# Altium schematic symbol library Y001_Artix7_USB3.0_D0.SchLib: 22 symbols
Pins are listed as number, name and electrical type; pins without a type are passive.

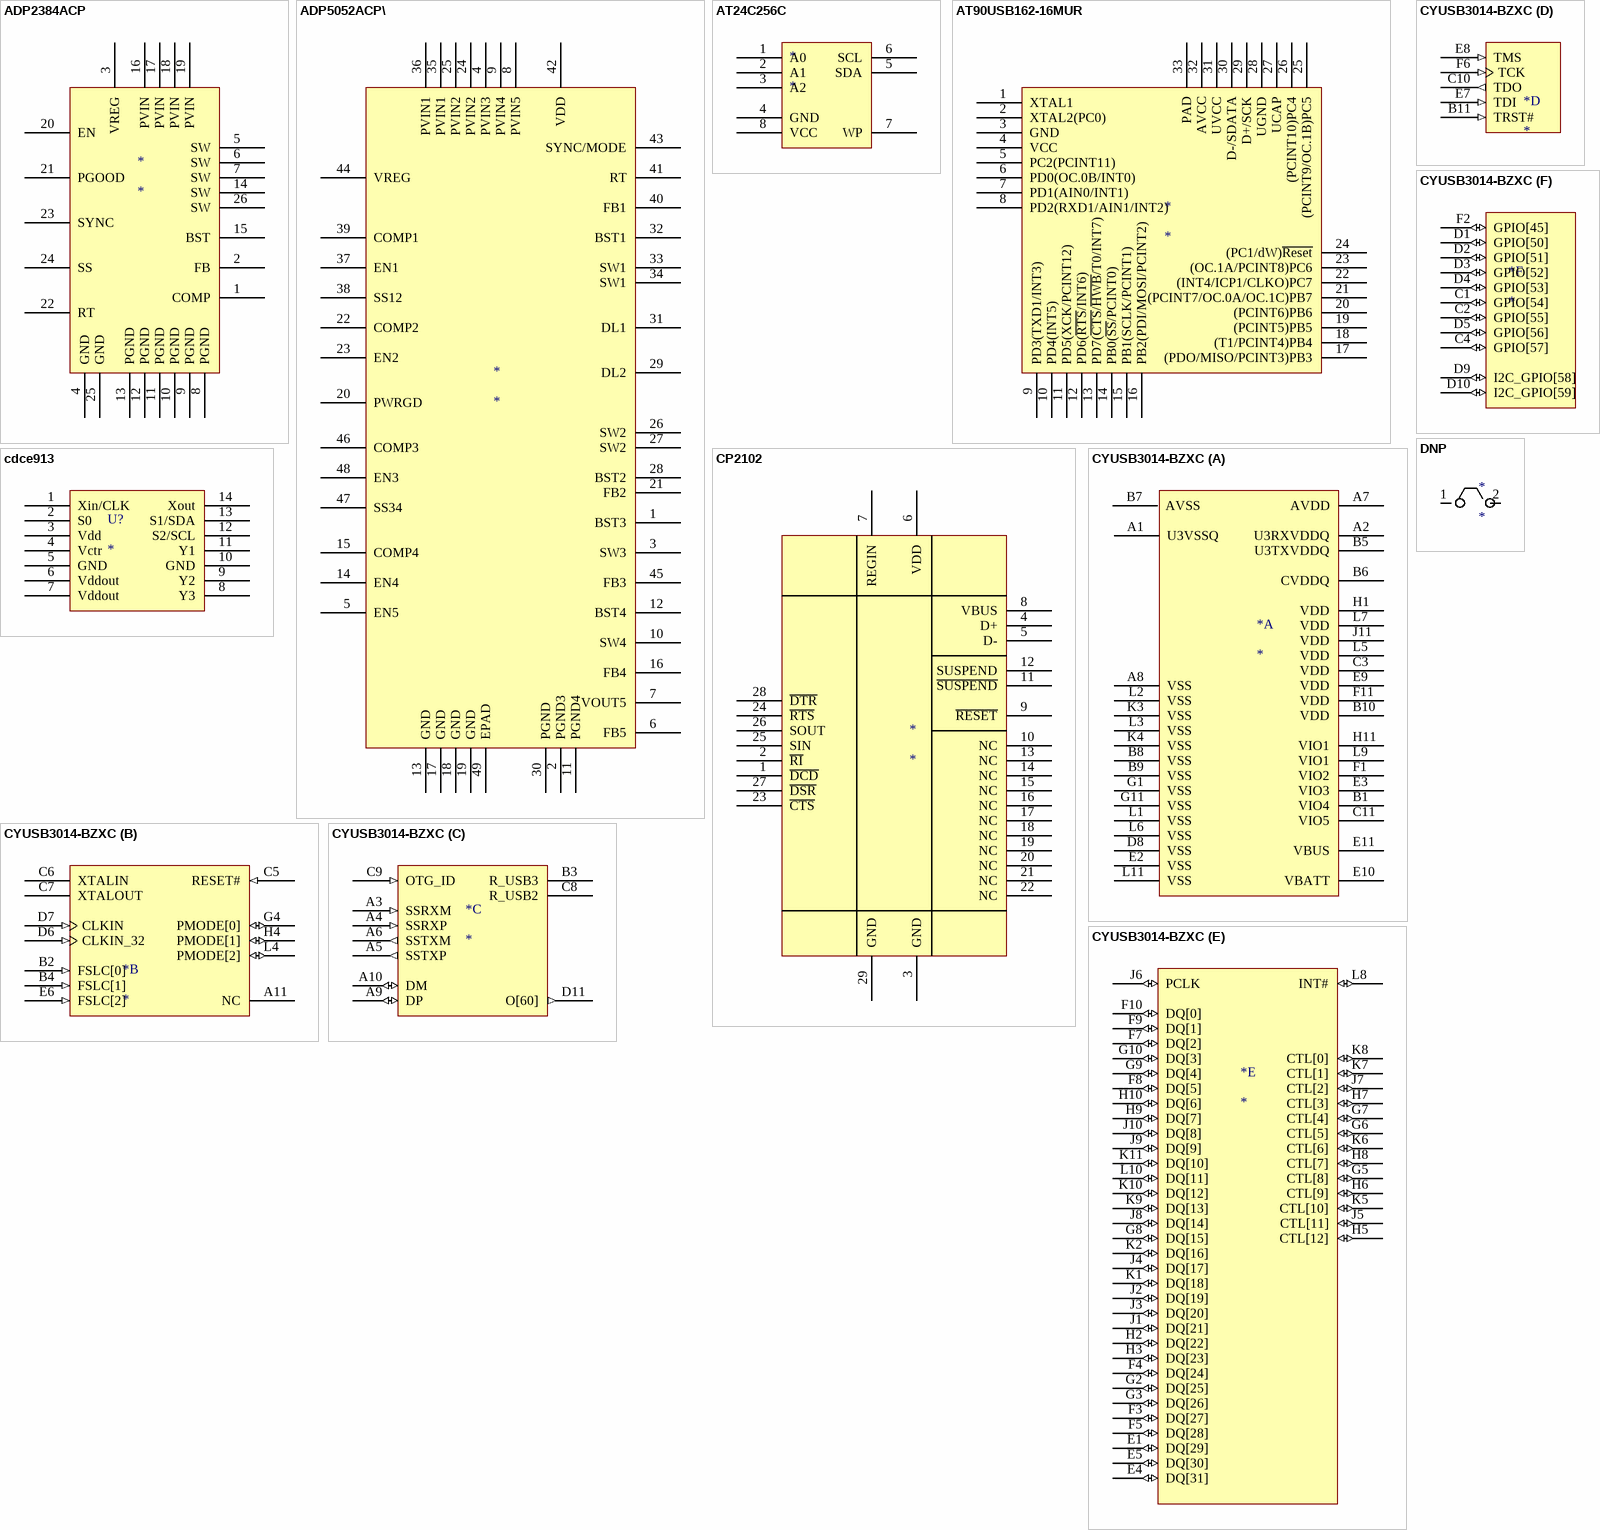
[diagram p0: symbols ADP2384ACP to DNP]

## ADP2384ACP
designator *
footprint ADP2384
pins: 1 COMP, 2 FB, 3 VREG, 4 GND, 5 SW, 6 SW, 7 SW, 8 PGND, 9 PGND, 10 PGND, 11 PGND, 12 PGND, 13 PGND, 14 SW, 15 BST, 16 PVIN, 17 PVIN, 18 PVIN, 19 PVIN, 20 EN, 21 PGOOD, 22 RT, 23 SYNC, 24 SS, 25 GND, 26 SW

## ADP5052ACP\
designator *
footprint ADP5052
pins: 1 BST3, 2 PGND3, 3 SW3, 4 PVIN3, 5 EN5, 6 FB5, 7 VOUT5, 8 PVIN5, 9 PVIN4, 10 SW4, 11 PGND4, 12 BST4, 13 GND, 14 EN4, 15 COMP4, 16 FB4, 17 GND, 18 GND, 19 GND, 20 PWRGD, 21 FB2, 22 COMP2, 23 EN2, 24 PVIN2, 25 PVIN2, 26 SW2, 27 SW2, 28 BST2, 29 DL2, 30 PGND, 31 DL1, 32 BST1, 33 SW1, 34 SW1, 35 PVIN1, 36 PVIN1, 37 EN1, 38 SS12, 39 COMP1, 40 FB1, 41 RT, 42 VDD, 43 SYNC/MODE, 44 VREG, 45 FB3, 46 COMP3, 47 SS34, 48 EN3, 49 EPAD

## AT24C256C
designator *
footprint AT24C256C[SOP8]
pins: 1 A0, 2 A1, 3 A2, 4 GND, 5 SDA, 6 SCL, 7 WP, 8 VCC

## AT90USB162-16MUR
designator *
footprint AT90USB162-16MUR
pins: 1 XTAL1, 2 XTAL2(PC0), 3 GND, 4 VCC, 5 PC2(PCINT11), 6 PD0(OC.0B/INT0), 7 PD1(AIN0/INT1), 8 PD2(RXD1/AIN1/INT2), 9 PD3(TXD1/INT3), 10 PD4(INT5), 11 PD5(XCK/PCINT12), 12 PD6(~{RTS}/INT6), 13 PD7(~{CTS}/~{HWB}/T0/INT7), 14 PB0(~{SS}/PCINT0), 15 PB1(SCLK/PCINT1), 16 PB2(PDI/MOSI/PCINT2), 17 (PDO/MISO/PCINT3)PB3, 18 (T1/PCINT4)PB4, 19 (PCINT5)PB5, 20 (PCINT6)PB6, 21 (PCINT7/OC.0A/OC.1C)PB7, 22 (INT4/ICP1/CLKO)PC7, 23 (OC.1A/PCINT8)PC6, 24 (PC1/dW)~{Reset}, 25 (PCINT9/OC.1B)PC5, 26 (PCINT10)PC4, 27 UCAP, 28 UGND, 29 D+/SCK, 30 D-/SDATA, 31 UVCC, 32 AVCC, 33 PAD

## cdce913
designator U?
Flexible Low Power LVCMOS Clock Generator With SSC Support for EMI Reduction; Preferred Part Number: cdce913; MANF: TI; Value: cdce913; Footprint: CDCE913[TSSOP-14]
footprint CDCE913[TSSOP-14]
pins: 1 Xin/CLK, 2 S0, 3 Vdd, 4 Vctr, 5 GND, 6 Vddout, 7 Vddout, 8 Y3, 9 Y2, 10 GND, 11 Y1, 12 S2/SCL, 13 S1/SDA, 14 Xout

## CP2102
designator *
Single Chip USB to UART Bridge; Preferred Part Number: CP2102; MANF: Silicon Labs; Value: CP2102; FootPrint: CP2102[QFN-28]
footprint CP2102[QFN28]
pins: 1 ~{DCD}, 2 ~{RI}, 3 GND, 4 D+, 5 D-, 6 VDD, 7 REGIN, 8 VBUS, 9 ~{RESET}, 10 NC, 11 ~{SUSPEND}, 12 SUSPEND, 13 NC, 14 NC, 15 NC, 16 NC, 17 NC, 18 NC, 19 NC, 20 NC, 21 NC, 22 NC, 23 ~{CTS}, 24 ~{RTS}, 25 SIN, 26 SOUT, 27 ~{DSR}, 28 ~{DTR}, 29 GND

## CYUSB3014-BZXC
designator *
footprint CYUSB3014
part A pins: A1 U3VSSQ (power), A2 U3RXVDDQ (power), A7 AVDD (power), A8 VSS (power), B1 VIO4 (power), B5 U3TXVDDQ (power), B6 CVDDQ (power), B7 AVSS (power), B8 VSS (power), B9 VSS (power), B10 VDD (power), C3 VDD (power), C11 VIO5 (power), D8 VSS (power), E2 VSS (power), E3 VIO3 (power), E9 VDD (power), E10 VBATT (power), E11 VBUS (power), F1 VIO2 (power), F11 VDD (power), G1 VSS (power), G11 VSS (power), H1 VDD (power), H11 VIO1 (power), J11 VDD (power), K3 VSS (power), K4 VSS (power), L1 VSS (power), L2 VSS (power), L3 VSS (power), L5 VDD (power), L6 VSS (power), L7 VDD (power), L9 VIO1 (power), L11 VSS (power)
part B pins: A11 NC, B2 FSLC[0] (in), B4 FSLC[1] (in), C5 RESET# (in), C6 XTALIN, C7 XTALOUT, D6 CLKIN_32 (in), D7 CLKIN (in), E6 FSLC[2] (in), G4 PMODE[0] (io), H4 PMODE[1] (io), L4 PMODE[2] (io)
part C pins: A3 SSRXM (in), A4 SSRXP (in), A5 SSTXP (out), A6 SSTXM (out), A9 DP (io), A10 DM (io), B3 R_USB3, C8 R_USB2, C9 OTG_ID (in), D11 O[60] (out)
part D pins: B11 TRST# (in), C10 TDO (out), E7 TDI (in), E8 TMS (in), F6 TCK (in)
part E pins: E1 DQ[29] (io), E4 DQ[31] (io), E5 DQ[30] (io), F3 DQ[27] (io), F4 DQ[24] (io), F5 DQ[28] (io), F7 DQ[2] (io), F8 DQ[5] (io), F9 DQ[1] (io), F10 DQ[0] (io), G2 DQ[25] (io), G3 DQ[26] (io), G5 CTL[8] (io), G6 CTL[5] (io), G7 CTL[4] (io), G8 DQ[15] (io), G9 DQ[4] (io), G10 DQ[3] (io), H2 DQ[22] (io), H3 DQ[23] (io), H5 CTL[12] (io), H6 CTL[9] (io), H7 CTL[3] (io), H8 CTL[7] (io), H9 DQ[7] (io), H10 DQ[6] (io), J1 DQ[21] (io), J2 DQ[19] (io), J3 DQ[20] (io), J4 DQ[17] (io), J5 CTL[11] (io), J6 PCLK (io), J7 CTL[2] (io), J8 DQ[14] (io), J9 DQ[9] (io), J10 DQ[8] (io), K1 DQ[18] (io), K2 DQ[16] (io), K5 CTL[10] (io), K6 CTL[6] (io), K7 CTL[1] (io), K8 CTL[0] (io), K9 DQ[13] (io), K10 DQ[12] (io), K11 DQ[10] (io), L8 INT# (io), L10 DQ[11] (io)
part F pins: C1 GPIO[54] (io), C2 GPIO[55] (io), C4 GPIO[57] (io), D1 GPIO[50] (io), D2 GPIO[51] (io), D3 GPIO[52] (io), D4 GPIO[53] (io), D5 GPIO[56] (io), D9 I2C_GPIO[58] (io), D10 I2C_GPIO[59] (io), F2 GPIO[45] (io)

## DNP
designator *
footprint DNP (Connector; Header; 5x2 Position)
pins: 1, 2

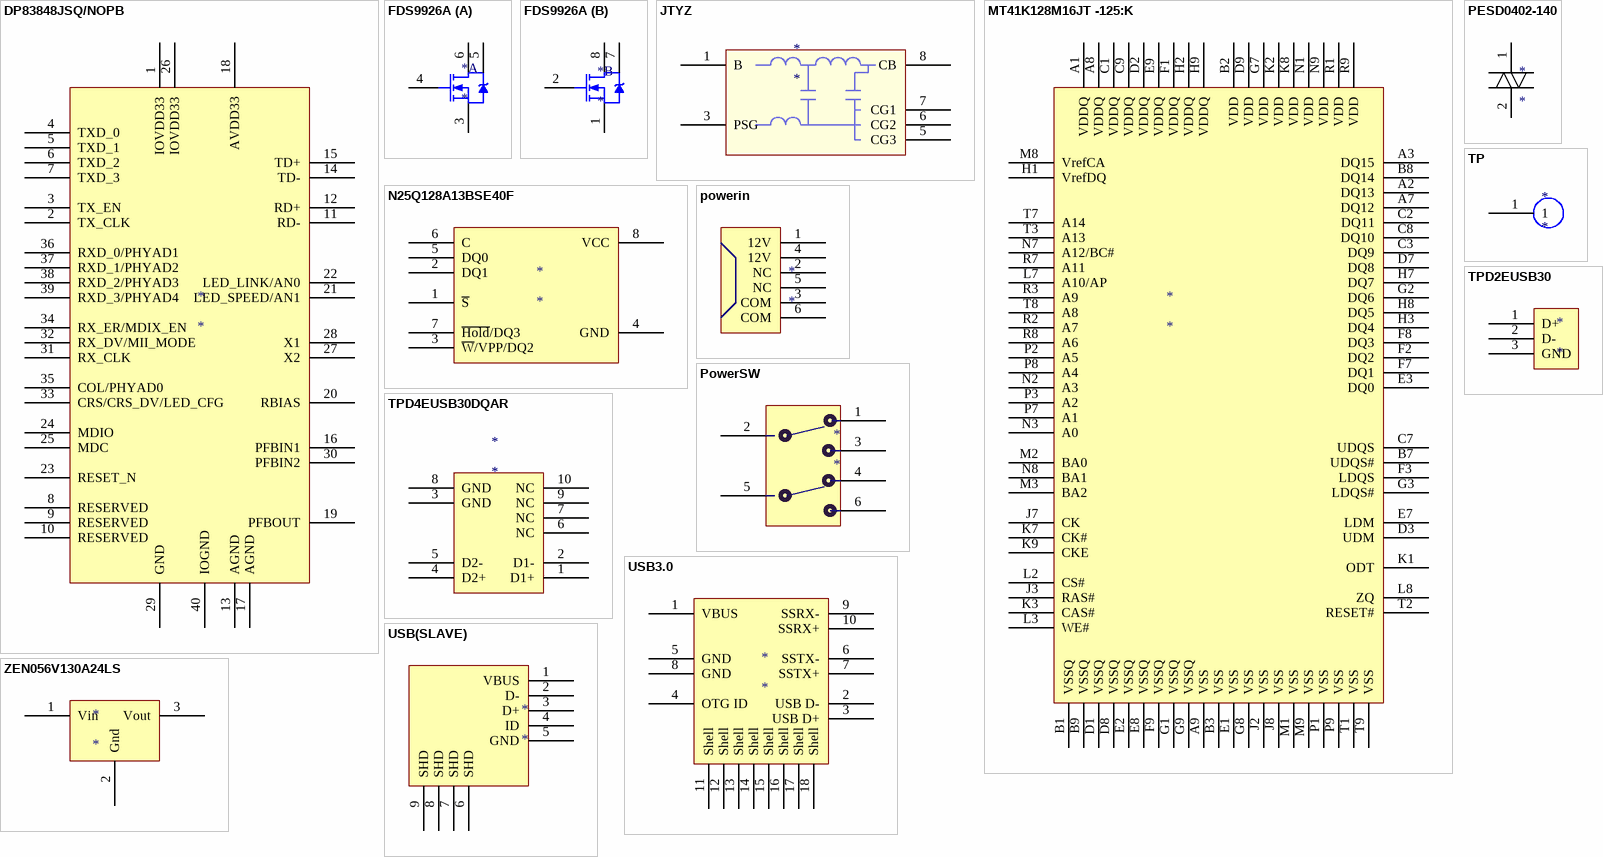
[diagram p1: symbols DP83848JSQ/NOPB to ZEN056V130A24LS]

## DP83848JSQ/NOPB
designator *
footprint DP83848J
pins: 1 IOVDD33, 2 TX_CLK, 3 TX_EN, 4 TXD_0, 5 TXD_1, 6 TXD_2, 7 TXD_3, 8 RESERVED, 9 RESERVED, 10 RESERVED, 11 RD-, 12 RD+, 13 AGND, 14 TD-, 15 TD+, 16 PFBIN1, 17 AGND, 18 AVDD33, 19 PFBOUT, 20 RBIAS, 21 LED_SPEED/AN1, 22 LED_LINK/AN0, 23 RESET_N, 24 MDIO, 25 MDC, 26 IOVDD33, 27 X2, 28 X1, 29 GND, 30 PFBIN2, 31 RX_CLK, 32 RX_DV/MII_MODE, 33 CRS/CRS_DV/LED_CFG, 34 RX_ER/MDIX_EN, 35 COL/PHYAD0, 36 RXD_0/PHYAD1, 37 RXD_1/PHYAD2, 38 RXD_2/PHYAD3, 39 RXD_3/PHYAD4, 40 IOGND

## FDS9926A
designator *
footprint FDS9926A
part A pins: 3 S, 4 G, 5 D, 6 D
part B pins: 1 S, 2 G, 7 D, 8 D

## JTYZ
designator *
footprint JTYZ
pins: 1 B, 3 PSG, 5 CG3, 6 CG2, 7 CG1, 8 CB

## MT41K128M16JT -125:K
designator *
DDR3L
footprint MT41K128M16JT
pins: A1 VDDQ, A2 DQ13, A3 DQ15, A7 DQ12, A8 VDDQ, A9 VSS, B1 VSSQ, B2 VDD, B3 VSS, B7 UDQS#, B8 DQ14, B9 VSSQ, C1 VDDQ, C2 DQ11, C3 DQ9, C7 UDQS, C8 DQ10, C9 VDDQ, D1 VSSQ, D2 VDDQ, D3 UDM, D7 DQ8, D8 VSSQ, D9 VDD, E1 VSS, E2 VSSQ, E3 DQ0, E7 LDM, E8 VSSQ, E9 VDDQ, F1 VDDQ, F2 DQ2, F3 LDQS, F7 DQ1, F8 DQ3, F9 VSSQ, G1 VSSQ, G2 DQ6, G3 LDQS#, G7 VDD, G8 VSS, G9 VSSQ, H1 VrefDQ, H2 VDDQ, H3 DQ4, H7 DQ7, H8 DQ5, H9 VDDQ, J2 VSS, J3 RAS#, J7 CK, J8 VSS, K1 ODT, K2 VDD, K3 CAS#, K7 CK#, K8 VDD, K9 CKE, L2 CS#, L3 WE#, L7 A10/AP, L8 ZQ, M1 VSS, M2 BA0, M3 BA2, M8 VrefCA, M9 VSS, N1 VDD, N2 A3, N3 A0, N7 A12/BC#, N8 BA1, N9 VDD, P1 VSS, P2 A5, P3 A2, P7 A1, P8 A4, P9 VSS, R1 VDD, R2 A7, R3 A9, R7 A11, R8 A6, R9 VDD, T1 VSS, T2 RESET#, T3 A13, T7 A14, T8 A8, T9 VSS

## N25Q128A13BSE40F
designator *
128Mb, 3V, Multiple I/O Serial Flash Memory; Preferred Part Number: N25Q128A13BSE40F; MANF: Micron; Value: N25Q128A13BSE40F; Footprint: N25Q128A13BSE40F[SOP-8]
footprint N25Q128A13BSE40F[SOP-8]
pins: 1 ~{S}, 2 DQ1, 3 ~{W}/VPP/DQ2, 4 GND, 5 DQ0, 6 C, 7 ~{Hold}/DQ3, 8 VCC

## PESD0402-140
designator *
ESD保护器件
footprint PESD0402-140
pins: 1, 2

## powerin
designator *
footprint POWER2X3
pins: 1 12V, 2 NC, 3 COM, 4 12V, 5 NC, 6 COM

## PowerSW
designator *
footprint Power_SW
pins: 1, 2, 3, 4, 5, 6

## TP
designator *
Test Point
pins: 1

## TPD2EUSB30
designator *
footprint TPE2USB30
pins: 1 D+, 2 D-, 3 GND

## TPD4EUSB30DQAR
designator *
4-Channel ESD Protection for Super-Speed USB 3.0 Interface
footprint TPD4EUSB30
pins: 1 D1+, 2 D1-, 3 GND, 4 D2+, 5 D2-, 6 NC, 7 NC, 8 GND, 9 NC, 10 NC

## USB3.0
designator *
footprint ZX360D-B-10P
pins: 1 VBUS, 2 USB D-, 3 USB D+, 4 OTG ID, 5 GND, 6 SSTX-, 7 SSTX+, 8 GND, 9 SSRX-, 10 SSRX+, 11 Shell, 12 Shell, 13 Shell, 14 Shell, 15 Shell, 16 Shell, 17 Shell, 18 Shell

## USB(SLAVE)
designator *
USB座
footprint USB_MINI_Btype
pins: 1 VBUS, 2 D-, 3 D+, 4 ID, 5 GND, 6 SHD, 7 SHD, 8 SHD, 9 SHD

## ZEN056V130A24LS
designator *
电压瞬态抑制器
footprint ZEN056
pins: 1 Vin, 2 Gnd, 3 Vout